# Altium schematic symbol library OPA2192.SchLib: 1 symbol
Pins are listed as number, name and electrical type; pins without a type are passive.

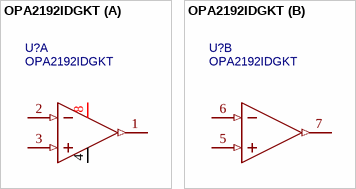
[diagram p0: symbol OPA2192IDGKT]

## OPA2192IDGKT
designator U?
具有 e-trim 的 36V、精密、RRIO、低失调电压、低输入偏置电流运算放大器; subpart_no: 1; Manufacturer: TI(德州仪器); Supplier: LCSC; Supplier Part: C2870156; Manufacturer Part: OPA2192IDGKT; JLCPCB Part Class: Extended Part; spicePre: U; spiceSymbolName: OPA2192IDGKT
footprint VSSOP-8_L3.0-W3.0-P0.65-LS4.9-BL
part A pins: 1 OUT A (out), 2 -IN A (in), 3 +IN A (in), 4 V- (power), 8 V+ (power)
part B pins: 5 +IN B (in), 6 -IN B (in), 7 OUT B (out)